# Altium integrated library SFMC-110-01-L-D.IntLib: 1 symbol
Pins are listed as number, name and electrical type; pins without a type are passive.

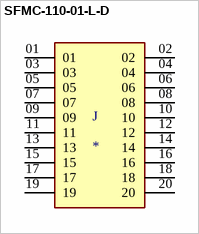
[diagram p0: symbol SFMC-110-01-L-D]

## SFMC-110-01-L-D
designator J
MP: SFMC-110-01-L-D; MF: Samtec; Price: None; Value: *; Availability: Unavailable; Package: None
footprint SAMTEC_SFMC-110-01-L-D
pins: 01, 02, 03, 04, 05, 06, 07, 08, 09, 10, 11, 12, 13, 14, 15, 16, 17, 18, 19, 20